# EAGLE library part 74HC453 (library dpx-IC)
High Speed CMOS Logic Dual Retriggerable Precision Monostable Multivibrators Source: Datasheet <http://www.ti.com/lit/gpn/CD74HC4538>
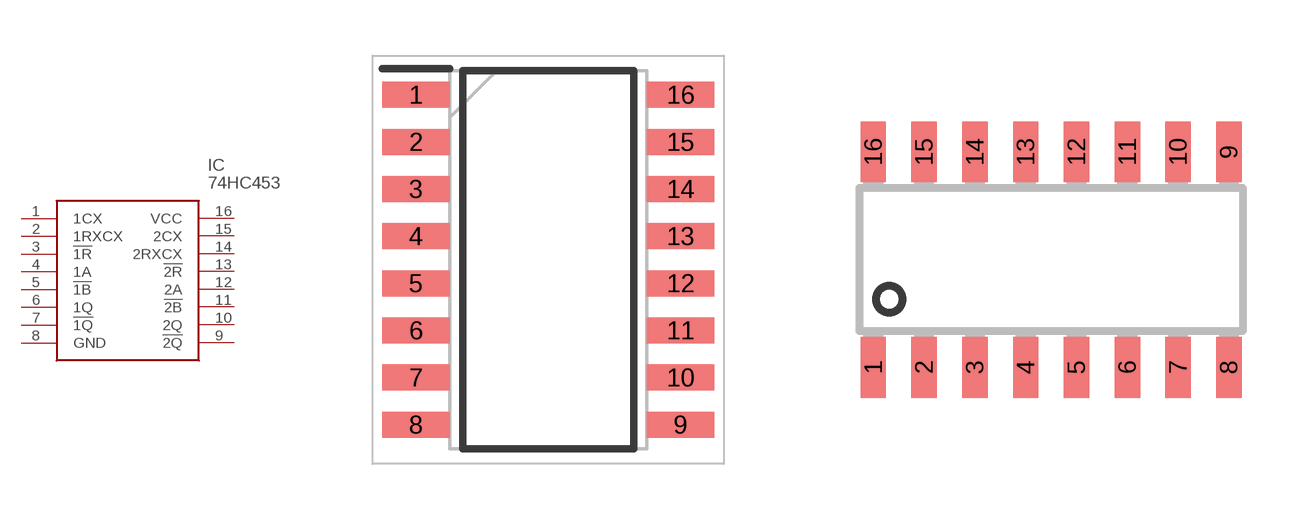
[diagram p17: symbol with the pads of SOIC127P780X200-16N; footprints SOIC127P780X200-16N, SOIC16]

Designator prefix IC

## 74HC453 (DESCRIPTION: High Speed CMOS Logic Dual Retriggerable Precision Monostable Multivibrators; HEIGHT: 2mm; MANUFACTURER_NAME: Texas Instruments; MANUFACTURER_PART_NUMBER: CD74HC4538NSR; MOUSER_PART_NUMBER: 595-CD74HC4538NSR; MOUSER_PRICE-STOCK: https://www.mouser.co.uk/ProductDetail/Texas-Instruments/CD74HC4538NSR?qs=gb35HGp1gQJopteFq%252BsITQ%3D%3D)  [SOIC127P780X200-16N]
1  1CX
2  1RXCX
3  !1R
4  1A
5  !1B
6  1Q
7  !1Q
8  GND
9  !2Q
10  2Q
11  !2B
12  2A
13  !2R
14  2RXCX
15  2CX
16  VCC

## 74HC453SOCI16  [SOIC16]
Pads as for SOIC127P780X200-16N

## Footprint SOIC127P780X200-16N (pad centres in mm)
NS (R-PDSO-G16)
smd 1.825 x 0.7: 1 -3.562,4.445; 2 -3.562,3.175; 3 -3.562,1.905; 4 -3.562,0.635; 5 -3.562,-0.635; 6 -3.562,-1.905; 7 -3.562,-3.175; 8 -3.562,-4.445; 9 3.562,-4.445; 10 3.562,-3.175; 11 3.562,-1.905; 12 3.562,-0.635; 13 3.562,0.635; 14 3.562,1.905; 15 3.562,3.175; 16 3.562,4.445

## Footprint SOIC16 (pad centres in mm)
SMALL OUTLINE INTEGRATED CIRCUIT 16-Pin (150-Mil) SOIC Source: http://www.cypress.com .. 38-12025_0P_V.pdf
smd 0.635 x 1.524: 1 -4.445,-2.695; 2 -3.175,-2.695; 3 -1.905,-2.695; 4 -0.635,-2.695; 5 0.635,-2.695; 6 1.905,-2.695; 7 3.175,-2.695; 8 4.445,-2.695; 9 4.445,2.695; 10 3.175,2.695; 11 1.905,2.695; 12 0.635,2.695; 13 -0.635,2.695; 14 -1.905,2.695; 15 -3.175,2.695; 16 -4.445,2.695